# Altium footprint library Miscellaneous Devices LC.PcbLib: 559 footprints (part 17 of 35)
Each footprint in its own frame and in the unit in brackets; x right, y up, seen from the top. Pads: shape width x height; smd on the part's side, far side on the other; paste and mask are expansions set on the pad; w line width, h text height; cw(c..) or ccw(c..) is an arc to the next point about the centre after c.
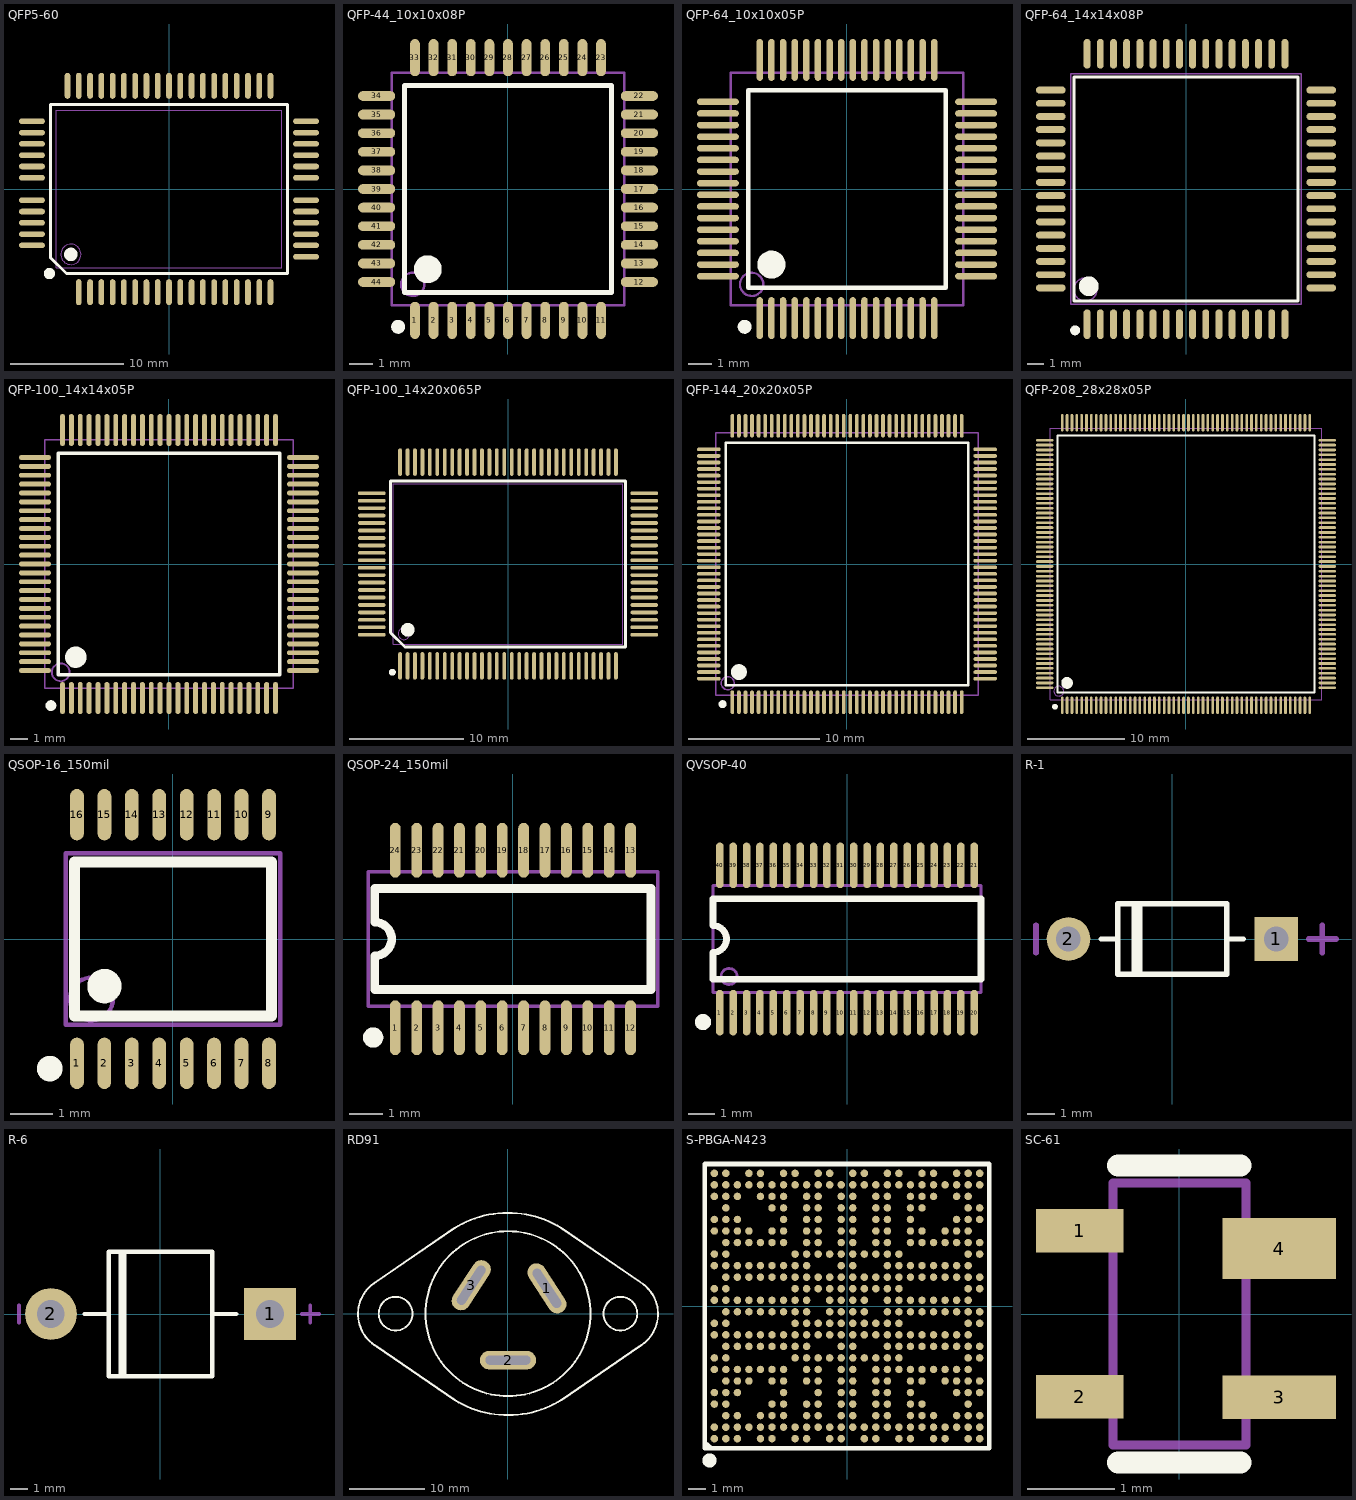
[diagram p16: the footprints below, top view; thin cyan lines are the x and y axes]

## QFP5-60 [mm]
pads (60):
  oval 2.3x0.5 smd: 1(-12.15,-1) 2(-12.15,-2) 3(-12.15,-3) 4(-12.15,-4) 5(-12.15,-5) 24(12.15,-6) 25(12.15,-5) 26(12.15,-4) 27(12.15,-3) 28(12.15,-2) 29(12.15,-1) 30(12.15,1) 31(12.15,2) 32(12.15,3) 33(12.15,4) 34(12.15,5) 35(12.15,6) 55(-12.15,6) 56(-12.15,5) 57(-12.15,4) 58(-12.15,3) 59(-12.15,2) 60(-12.15,1)
  oval 0.5x2.3 smd: 6(-8,-9.15) 7(-7,-9.15) 8(-6,-9.15) 9(-5,-9.15) 10(-4,-9.15) 11(-3,-9.15) 12(-2,-9.15) 13(-1,-9.15) 14(0,-9.15) 15(1,-9.15) 16(2,-9.15) 17(3,-9.15) 18(4,-9.15) 19(5,-9.15) 20(6,-9.15) 21(7,-9.15) 22(8,-9.15) 23(9,-9.15) 36(9,9.15) 37(8,9.15) 38(7,9.15) 39(6,9.15) 40(5,9.15) 41(4,9.15) 42(3,9.15) 43(2,9.15) 44(1,9.15) 45(0,9.15) 46(-1,9.15) 47(-2,9.15) 48(-3,9.15) 49(-4,9.15) 50(-5,9.15) 51(-6,9.15) 52(-7,9.15) 53(-8,9.15) 54(-9,9.15)
Top Overlay:
  circle w0.6: c-8.7,-5.8 r0.3
  circle w0.5: c-10.6,-7.5 r0.25
  lines w0.254: -10.5,-6.1 -9.1,-7.5 10.5,-7.5 10.5,7.5 -10.5,7.5 -10.5,-6.1
Mechanical 13:
  circle w0.1: c-8.7,-5.8 r0.9
  lines w0.1: -10,-7 -10,7 10,7 10,-7 -10,-7

## QFP-44_10x10x08P [mm]
pads (44):
  oval 0.42x1.6 smd: 1(-4,-5.65) 2(-3.2,-5.65) 3(-2.4,-5.65) 4(-1.6,-5.65) 5(-0.8,-5.65) 6(0,-5.65) 7(0.8,-5.65) 8(1.6,-5.65) 9(2.4,-5.65) 10(3.2,-5.65) 11(4,-5.65) 23(4,5.65) 24(3.2,5.65) 25(2.4,5.65) 26(1.6,5.65) 27(0.8,5.65) 28(0,5.65) 29(-0.8,5.65) 30(-1.6,5.65) 31(-2.4,5.65) 32(-3.2,5.65) 33(-4,5.65)
  oval 1.6x0.42 smd: 12(5.65,-4) 13(5.65,-3.2) 14(5.65,-2.4) 15(5.65,-1.6) 16(5.65,-0.8) 17(5.65,0) 18(5.65,0.8) 19(5.65,1.6) 20(5.65,2.4) 21(5.65,3.2) 22(5.65,4) 34(-5.65,4) 35(-5.65,3.2) 36(-5.65,2.4) 37(-5.65,1.6) 38(-5.65,0.8) 39(-5.65,0) 40(-5.65,-0.8) 41(-5.65,-1.6) 42(-5.65,-2.4) 43(-5.65,-3.2) 44(-5.65,-4)
Top Overlay:
  circle w0.6: c-3.45,-3.45 r0.3
  circle w0.3: c-4.725,-5.925 r0.15
  lines w0.2: -4.45,-4.45 4.45,-4.45 4.45,4.45 -4.45,4.45 -4.45,-4.45
Mechanical 13:
  circle w0.1: c-4.1,-4.1 r0.5
  lines w0.1: -5,-5 5,-5 5,5 -5,5 -5,-5

## QFP-64_10x10x05P [mm]
pads (64):
  oval 0.28x1.8 smd mask+0.051: 1(-3.75,-5.55) 2(-3.25,-5.55) 3(-2.75,-5.55) 4(-2.25,-5.55) 5(-1.75,-5.55) 6(-1.25,-5.55) 7(-0.75,-5.55) 8(-0.25,-5.55) 9(0.25,-5.55) 10(0.75,-5.55) 11(1.25,-5.55) 12(1.75,-5.55) 13(2.25,-5.55) 14(2.75,-5.55) 15(3.25,-5.55) 16(3.75,-5.55) 33(3.75,5.55) 34(3.25,5.55) 35(2.75,5.55) 36(2.25,5.55) 37(1.75,5.55) 38(1.25,5.55) 39(0.75,5.55) 40(0.25,5.55) 41(-0.25,5.55) 42(-0.75,5.55) 43(-1.25,5.55) 44(-1.75,5.55) 45(-2.25,5.55) 46(-2.75,5.55) 47(-3.25,5.55) 48(-3.75,5.55)
  oval 1.8x0.28 smd mask+0.051: 17(5.55,-3.75) 18(5.55,-3.25) 19(5.55,-2.75) 20(5.55,-2.25) 21(5.55,-1.75) 22(5.55,-1.25) 23(5.55,-0.75) 24(5.55,-0.25) 25(5.55,0.25) 26(5.55,0.75) 27(5.55,1.25) 28(5.55,1.75) 29(5.55,2.25) 30(5.55,2.75) 31(5.55,3.25) 32(5.55,3.75) 49(-5.55,3.75) 50(-5.55,3.25) 51(-5.55,2.75) 52(-5.55,2.25) 53(-5.55,1.75) 54(-5.55,1.25) 55(-5.55,0.75) 56(-5.55,0.25) 57(-5.55,-0.25) 58(-5.55,-0.75) 59(-5.55,-1.25) 60(-5.55,-1.75) 61(-5.55,-2.25) 62(-5.55,-2.75) 63(-5.55,-3.25) 64(-5.55,-3.75)
Top Overlay:
  circle w0.3: c-4.4,-5.925 r0.15
  circle w0.6: c-3.25,-3.25 r0.3
  lines w0.2: -4.25,-4.25 -4.25,4.25 4.25,4.25 4.25,-4.25 -4.25,-4.25
Mechanical 13:
  circle w0.1: c-4.1,-4.1 r0.5
  lines w0.1: -5,-5 -5,5 5,5 5,-5 -5,-5
3D body "PQFP-64.STEP": height 1.02, standoff -0.09, extent -5.79,-5.79 5.791,5.785

## QFP-64_14x14x08P [mm]
pads (64):
  oval 0.42x1.8 smd: 1(-6,-8.2) 2(-5.2,-8.2) 3(-4.4,-8.2) 4(-3.6,-8.2) 5(-2.8,-8.2) 6(-2,-8.2) 7(-1.2,-8.2) 8(-0.4,-8.2) 9(0.4,-8.2) 10(1.2,-8.2) 11(2,-8.2) 12(2.8,-8.2) 13(3.6,-8.2) 14(4.4,-8.2) 15(5.2,-8.2) 16(6,-8.2) 33(6,8.2) 34(5.2,8.2) 35(4.4,8.2) 36(3.6,8.2) 37(2.8,8.2) 38(2,8.2) 39(1.2,8.2) 40(0.4,8.2) 41(-0.4,8.2) 42(-1.2,8.2) 43(-2,8.2) 44(-2.8,8.2) 45(-3.6,8.2) 46(-4.4,8.2) 47(-5.2,8.2) 48(-6,8.2)
  oval 1.8x0.42 smd: 17(8.2,-6) 18(8.2,-5.2) 19(8.2,-4.4) 20(8.2,-3.6) 21(8.2,-2.8) 22(8.2,-2) 23(8.2,-1.2) 24(8.2,-0.4) 25(8.2,0.4) 26(8.2,1.2) 27(8.2,2) 28(8.2,2.8) 29(8.2,3.6) 30(8.2,4.4) 31(8.2,5.2) 32(8.2,6) 49(-8.2,6) 50(-8.2,5.2) 51(-8.2,4.4) 52(-8.2,3.6) 53(-8.2,2.8) 54(-8.2,2) 55(-8.2,1.2) 56(-8.2,0.4) 57(-8.2,-0.4) 58(-8.2,-1.2) 59(-8.2,-2) 60(-8.2,-2.8) 61(-8.2,-3.6) 62(-8.2,-4.4) 63(-8.2,-5.2) 64(-8.2,-6)
Top Overlay:
  circle w0.3: c-6.725,-8.575 r0.15
  circle w0.6: c-5.9,-5.9 r0.3
  lines w0.2: -6.8,-6.8 -6.8,6.8 6.8,6.8 6.8,-6.8 -6.8,-6.8
Mechanical 13:
  circle w0.1: c-6.1,-6.1 r0.7
  lines w0.1: -7,-7 -7,7 7,7 7,-7 -7,-7

## QFP-100_14x14x05P [mm]
pads (100):
  oval 0.28x1.8 smd mask+0.051: 1(-6,-7.55) 2(-5.5,-7.55) 3(-5,-7.55) 4(-4.5,-7.55) 5(-4,-7.55) 6(-3.5,-7.55) 7(-3,-7.55) 8(-2.5,-7.55) 9(-2,-7.55) 10(-1.5,-7.55) 11(-1,-7.55) 12(-0.5,-7.55) 13(0,-7.55) 14(0.5,-7.55) 15(1,-7.55) 16(1.5,-7.55) 17(2,-7.55) 18(2.5,-7.55) 19(3,-7.55) 20(3.5,-7.55) 21(4,-7.55) 22(4.5,-7.55) 23(5,-7.55) 24(5.5,-7.55) 25(6,-7.55) 51(6,7.55) 52(5.5,7.55) 53(5,7.55) 54(4.5,7.55) 55(4,7.55) 56(3.5,7.55) 57(3,7.55) 58(2.5,7.55) 59(2,7.55) 60(1.5,7.55) 61(1,7.55) 62(0.5,7.55) 63(0,7.55) 64(-0.5,7.55) 65(-1,7.55) 66(-1.5,7.55) 67(-2,7.55) 68(-2.5,7.55) 69(-3,7.55) 70(-3.5,7.55) 71(-4,7.55) 72(-4.5,7.55) 73(-5,7.55) 74(-5.5,7.55) 75(-6,7.55)
  oval 1.8x0.28 smd mask+0.051: 26(7.55,-6) 27(7.55,-5.5) 28(7.55,-5) 29(7.55,-4.5) 30(7.55,-4) 31(7.55,-3.5) 32(7.55,-3) 33(7.55,-2.5) 34(7.55,-2) 35(7.55,-1.5) 36(7.55,-1) 37(7.55,-0.5) 38(7.55,0) 39(7.55,0.5) 40(7.55,1) 41(7.55,1.5) 42(7.55,2) 43(7.55,2.5) 44(7.55,3) 45(7.55,3.5) 46(7.55,4) 47(7.55,4.5) 48(7.55,5) 49(7.55,5.5) 50(7.55,6) 76(-7.55,6) 77(-7.55,5.5) 78(-7.55,5) 79(-7.55,4.5) 80(-7.55,4) 81(-7.55,3.5) 82(-7.55,3) 83(-7.55,2.5) 84(-7.55,2) 85(-7.55,1.5) 86(-7.55,1) 87(-7.55,0.5) 88(-7.55,0) 89(-7.55,-0.5) 90(-7.55,-1) 91(-7.55,-1.5) 92(-7.55,-2) 93(-7.55,-2.5) 94(-7.55,-3) 95(-7.55,-3.5) 96(-7.55,-4) 97(-7.55,-4.5) 98(-7.55,-5) 99(-7.55,-5.5) 100(-7.55,-6)
Top Overlay:
  circle w0.6: c-5.25,-5.25 r0.3
  circle w0.3: c-6.65,-7.975 r0.15
  lines w0.2: -6.25,-6.25 -6.25,6.25 6.25,6.25 6.25,-6.25 -6.25,-6.25
Mechanical 13:
  circle w0.1: c-6.1,-6.1 r0.5
  lines w0.1: -7,-7 -7,7 7,7 7,-7 -7,-7
3D body "LQFP-100.STEP": height 1.6, standoff 0, extent -8,-8 8,8

## QFP-100_14x20x065P [mm]
pads (100):
  oval 0.33x2.4 smd: 1(-9.425,-8.9) 2(-8.775,-8.9) 3(-8.125,-8.9) 4(-7.475,-8.9) 5(-6.825,-8.9) 6(-6.175,-8.9) 7(-5.525,-8.9) 8(-4.875,-8.9) 9(-4.225,-8.9) 10(-3.575,-8.9) 11(-2.925,-8.9) 12(-2.275,-8.9) 13(-1.625,-8.9) 14(-0.975,-8.9) 15(-0.325,-8.9) 16(0.325,-8.9) 17(0.975,-8.9) 18(1.625,-8.9) 19(2.275,-8.9) 20(2.925,-8.9) 21(3.575,-8.9) 22(4.225,-8.9) 23(4.875,-8.9) 24(5.525,-8.9) 25(6.175,-8.9) 26(6.825,-8.9) 27(7.475,-8.9) 28(8.125,-8.9) 29(8.775,-8.9) 30(9.425,-8.9) 51(9.425,8.9) 52(8.775,8.9) 53(8.125,8.9) 54(7.475,8.9) 55(6.825,8.9) 56(6.175,8.9) 57(5.525,8.9) 58(4.875,8.9) 59(4.225,8.9) 60(3.575,8.9) 61(2.925,8.9) 62(2.275,8.9) 63(1.625,8.9) 64(0.975,8.9) 65(0.325,8.9) 66(-0.325,8.9) 67(-0.975,8.9) 68(-1.625,8.9) 69(-2.275,8.9) 70(-2.925,8.9) 71(-3.575,8.9) 72(-4.225,8.9) 73(-4.875,8.9) 74(-5.525,8.9) 75(-6.175,8.9) 76(-6.825,8.9) 77(-7.475,8.9) 78(-8.125,8.9) 79(-8.775,8.9) 80(-9.425,8.9)
  oval 2.4x0.33 smd: 31(11.9,-6.175) 32(11.9,-5.525) 33(11.9,-4.875) 34(11.9,-4.225) 35(11.9,-3.575) 36(11.9,-2.925) 37(11.9,-2.275) 38(11.9,-1.625) 39(11.9,-0.975) 40(11.9,-0.325) 41(11.9,0.325) 42(11.9,0.975) 43(11.9,1.625) 44(11.9,2.275) 45(11.9,2.925) 46(11.9,3.575) 47(11.9,4.225) 48(11.9,4.875) 49(11.9,5.525) 50(11.9,6.175) 81(-11.9,6.175) 82(-11.9,5.525) 83(-11.9,4.875) 84(-11.9,4.225) 85(-11.9,3.575) 86(-11.9,2.925) 87(-11.9,2.275) 88(-11.9,1.625) 89(-11.9,0.975) 90(-11.9,0.325) 91(-11.9,-0.325) 92(-11.9,-0.975) 93(-11.9,-1.625) 94(-11.9,-2.275) 95(-11.9,-2.925) 96(-11.9,-3.575) 97(-11.9,-4.225) 98(-11.9,-4.875) 99(-11.9,-5.525) 100(-11.9,-6.175)
Top Overlay:
  circle w0.6: c-8.75,-5.75 r0.3
  circle w0.3: c-10.1,-9.45 r0.15
  lines w0.254: -10.25,-6 -9,-7.25 10.25,-7.25 10.25,7.25 -10.25,7.25 -10.25,-6
Mechanical 13:
  circle w0.1: c-9.1,-6.1 r0.5
  lines w0.1: -10,-7 -10,7 10,7 10,-7 -10,-7

## QFP-144_20x20x05P [mm]
pads (144):
  oval 0.28x1.8 smd mask+0.051: 1(-8.75,-10.55) 2(-8.25,-10.55) 3(-7.75,-10.55) 4(-7.25,-10.55) 5(-6.75,-10.55) 6(-6.25,-10.55) 7(-5.75,-10.55) 8(-5.25,-10.55) 9(-4.75,-10.55) 10(-4.25,-10.55) 11(-3.75,-10.55) 12(-3.25,-10.55) 13(-2.75,-10.55) 14(-2.25,-10.55) 15(-1.75,-10.55) 16(-1.25,-10.55) 17(-0.75,-10.55) 18(-0.25,-10.55) 19(0.25,-10.55) 20(0.75,-10.55) 21(1.25,-10.55) 22(1.75,-10.55) 23(2.25,-10.55) 24(2.75,-10.55) 25(3.25,-10.55) 26(3.75,-10.55) 27(4.25,-10.55) 28(4.75,-10.55) 29(5.25,-10.55) 30(5.75,-10.55) 31(6.25,-10.55) 32(6.75,-10.55) 33(7.25,-10.55) 34(7.75,-10.55) 35(8.25,-10.55) 36(8.75,-10.55) 73(8.75,10.55) 74(8.25,10.55) 75(7.75,10.55) 76(7.25,10.55) 77(6.75,10.55) 78(6.25,10.55) 79(5.75,10.55) 80(5.25,10.55) 81(4.75,10.55) 82(4.25,10.55) 83(3.75,10.55) 84(3.25,10.55) 85(2.75,10.55) 86(2.25,10.55) 87(1.75,10.55) 88(1.25,10.55) 89(0.75,10.55) 90(0.25,10.55) 91(-0.25,10.55) 92(-0.75,10.55) 93(-1.25,10.55) 94(-1.75,10.55) 95(-2.25,10.55) 96(-2.75,10.55) 97(-3.25,10.55) 98(-3.75,10.55) 99(-4.25,10.55) 100(-4.75,10.55) 101(-5.25,10.55) 102(-5.75,10.55) 103(-6.25,10.55) 104(-6.75,10.55) 105(-7.25,10.55) 106(-7.75,10.55) 107(-8.25,10.55) 108(-8.75,10.55)
  oval 1.8x0.28 smd mask+0.051: 37(10.55,-8.75) 38(10.55,-8.25) 39(10.55,-7.75) 40(10.55,-7.25) 41(10.55,-6.75) 42(10.55,-6.25) 43(10.55,-5.75) 44(10.55,-5.25) 45(10.55,-4.75) 46(10.55,-4.25) 47(10.55,-3.75) 48(10.55,-3.25) 49(10.55,-2.75) 50(10.55,-2.25) 51(10.55,-1.75) 52(10.55,-1.25) 53(10.55,-0.75) 54(10.55,-0.25) 55(10.55,0.25) 56(10.55,0.75) 57(10.55,1.25) 58(10.55,1.75) 59(10.55,2.25) 60(10.55,2.75) 61(10.55,3.25) 62(10.55,3.75) 63(10.55,4.25) 64(10.55,4.75) 65(10.55,5.25) 66(10.55,5.75) 67(10.55,6.25) 68(10.55,6.75) 69(10.55,7.25) 70(10.55,7.75) 71(10.55,8.25) 72(10.55,8.75) 109(-10.55,8.75) 110(-10.55,8.25) 111(-10.55,7.75) 112(-10.55,7.25) 113(-10.55,6.75) 114(-10.55,6.25) 115(-10.55,5.75) 116(-10.55,5.25) 117(-10.55,4.75) 118(-10.55,4.25) 119(-10.55,3.75) 120(-10.55,3.25) 121(-10.55,2.75) 122(-10.55,2.25) 123(-10.55,1.75) 124(-10.55,1.25) 125(-10.55,0.75) 126(-10.55,0.25) 127(-10.55,-0.25) 128(-10.55,-0.75) 129(-10.55,-1.25) 130(-10.55,-1.75) 131(-10.55,-2.25) 132(-10.55,-2.75) 133(-10.55,-3.25) 134(-10.55,-3.75) 135(-10.55,-4.25) 136(-10.55,-4.75) 137(-10.55,-5.25) 138(-10.55,-5.75) 139(-10.55,-6.25) 140(-10.55,-6.75) 141(-10.55,-7.25) 142(-10.55,-7.75) 143(-10.55,-8.25) 144(-10.55,-8.75)
Top Overlay:
  circle w0.3: c-9.5,-10.7 r0.15
  circle w0.6: c-8.25,-8.25 r0.3
  lines w0.2: -9.25,-9.25 9.25,-9.25 9.25,9.25 -9.25,9.25 -9.25,-9.25
Mechanical 13:
  circle w0.1: c-9.1,-9.1 r0.5
  lines w0.1: -10,-10 10,-10 10,10 -10,10 -10,-10

## QFP-208_28x28x05P [mm]
pads (208):
  oval 0.28x1.8 smd mask+0.051: 1(-12.75,-14.55) 2(-12.25,-14.55) 3(-11.75,-14.55) 4(-11.25,-14.55) 5(-10.75,-14.55) 6(-10.25,-14.55) 7(-9.75,-14.55) 8(-9.25,-14.55) 9(-8.75,-14.55) 10(-8.25,-14.55) 11(-7.75,-14.55) 12(-7.25,-14.55) 13(-6.75,-14.55) 14(-6.25,-14.55) 15(-5.75,-14.55) 16(-5.25,-14.55) 17(-4.75,-14.55) 18(-4.25,-14.55) 19(-3.75,-14.55) 20(-3.25,-14.55) 21(-2.75,-14.55) 22(-2.25,-14.55) 23(-1.75,-14.55) 24(-1.25,-14.55) 25(-0.75,-14.55) 26(-0.25,-14.55) 27(0.25,-14.55) 28(0.75,-14.55) 29(1.25,-14.55) 30(1.75,-14.55) 31(2.25,-14.55) 32(2.75,-14.55) 33(3.25,-14.55) 34(3.75,-14.55) 35(4.25,-14.55) 36(4.75,-14.55) 37(5.25,-14.55) 38(5.75,-14.55) 39(6.25,-14.55) 40(6.75,-14.55) 41(7.25,-14.55) 42(7.75,-14.55) 43(8.25,-14.55) 44(8.75,-14.55) 45(9.25,-14.55) 46(9.75,-14.55) 47(10.25,-14.55) 48(10.75,-14.55) 49(11.25,-14.55) 50(11.75,-14.55) 51(12.25,-14.55) 52(12.75,-14.55) 105(12.75,14.55) 106(12.25,14.55) 107(11.75,14.55) 108(11.25,14.55) 109(10.75,14.55) 110(10.25,14.55) 111(9.75,14.55) 112(9.25,14.55) 113(8.75,14.55) 114(8.25,14.55) 115(7.75,14.55) 116(7.25,14.55) 117(6.75,14.55) 118(6.25,14.55) 119(5.75,14.55) 120(5.25,14.55) 121(4.75,14.55) 122(4.25,14.55) 123(3.75,14.55) 124(3.25,14.55) 125(2.75,14.55) 126(2.25,14.55) 127(1.75,14.55) 128(1.25,14.55) 129(0.75,14.55) 130(0.25,14.55) 131(-0.25,14.55) 132(-0.75,14.55) 133(-1.25,14.55) 134(-1.75,14.55) 135(-2.25,14.55) 136(-2.75,14.55) 137(-3.25,14.55) 138(-3.75,14.55) 139(-4.25,14.55) 140(-4.75,14.55) 141(-5.25,14.55) 142(-5.75,14.55) 143(-6.25,14.55) 144(-6.75,14.55) 145(-7.25,14.55) 146(-7.75,14.55) 147(-8.25,14.55) 148(-8.75,14.55) 149(-9.25,14.55) 150(-9.75,14.55) 151(-10.25,14.55) 152(-10.75,14.55) 153(-11.25,14.55) 154(-11.75,14.55) 155(-12.25,14.55) 156(-12.75,14.55)
  oval 1.8x0.28 smd mask+0.051: 53(14.55,-12.75) 54(14.55,-12.25) 55(14.55,-11.75) 56(14.55,-11.25) 57(14.55,-10.75) 58(14.55,-10.25) 59(14.55,-9.75) 60(14.55,-9.25) 61(14.55,-8.75) 62(14.55,-8.25) 63(14.55,-7.75) 64(14.55,-7.25) 65(14.55,-6.75) 66(14.55,-6.25) 67(14.55,-5.75) 68(14.55,-5.25) 69(14.55,-4.75) 70(14.55,-4.25) 71(14.55,-3.75) 72(14.55,-3.25) 73(14.55,-2.75) 74(14.55,-2.25) 75(14.55,-1.75) 76(14.55,-1.25) 77(14.55,-0.75) 78(14.55,-0.25) 79(14.55,0.25) 80(14.55,0.75) 81(14.55,1.25) 82(14.55,1.75) 83(14.55,2.25) 84(14.55,2.75) 85(14.55,3.25) 86(14.55,3.75) 87(14.55,4.25) 88(14.55,4.75) 89(14.55,5.25) 90(14.55,5.75) 91(14.55,6.25) 92(14.55,6.75) 93(14.55,7.25) 94(14.55,7.75) 95(14.55,8.25) 96(14.55,8.75) 97(14.55,9.25) 98(14.55,9.75) 99(14.55,10.25) 100(14.55,10.75) 101(14.55,11.25) 102(14.55,11.75) 103(14.55,12.25) 104(14.55,12.75) 157(-14.55,12.75) 158(-14.55,12.25) 159(-14.55,11.75) 160(-14.55,11.25) 161(-14.55,10.75) 162(-14.55,10.25) 163(-14.55,9.75) 164(-14.55,9.25) 165(-14.55,8.75) 166(-14.55,8.25) 167(-14.55,7.75) 168(-14.55,7.25) 169(-14.55,6.75) 170(-14.55,6.25) 171(-14.55,5.75) 172(-14.55,5.25) 173(-14.55,4.75) 174(-14.55,4.25) 175(-14.55,3.75) 176(-14.55,3.25) 177(-14.55,2.75) 178(-14.55,2.25) 179(-14.55,1.75) 180(-14.55,1.25) 181(-14.55,0.75) 182(-14.55,0.25) 183(-14.55,-0.25) 184(-14.55,-0.75) 185(-14.55,-1.25) 186(-14.55,-1.75) 187(-14.55,-2.25) 188(-14.55,-2.75) 189(-14.55,-3.25) 190(-14.55,-3.75) 191(-14.55,-4.25) 192(-14.55,-4.75) 193(-14.55,-5.25) 194(-14.55,-5.75) 195(-14.55,-6.25) 196(-14.55,-6.75) 197(-14.55,-7.25) 198(-14.55,-7.75) 199(-14.55,-8.25) 200(-14.55,-8.75) 201(-14.55,-9.25) 202(-14.55,-9.75) 203(-14.55,-10.25) 204(-14.55,-10.75) 205(-14.55,-11.25) 206(-14.55,-11.75) 207(-14.55,-12.25) 208(-14.55,-12.75)
Top Overlay:
  circle w0.6: c-12.25,-12.25 r0.3
  circle w0.3: c-13.5,-14.7 r0.15
  lines w0.2: -13.25,-13.25 -13.25,13.25 13.25,13.25 13.25,-13.25 -13.25,-13.25
Mechanical 13:
  circle w0.1: c-13.1,-13.1 r0.5
  lines w0.1: -14,-14 -14,14 14,14 14,-14 -14,-14

## QSOP-16_150mil [mm]
pads (16):
  oval 0.32x1.2 smd: 1(-2.24,-2.9) 2(-1.6,-2.9) 3(-0.96,-2.9) 4(-0.32,-2.9) 5(0.32,-2.9) 6(0.96,-2.9) 7(1.6,-2.9) 8(2.24,-2.9) 9(2.24,2.9) 10(1.6,2.9) 11(0.96,2.9) 12(0.32,2.9) 13(-0.32,2.9) 14(-0.96,2.9) 15(-1.6,2.9) 16(-2.24,2.9)
Top Overlay:
  circle w0.3: c-2.875,-3.025 r0.15
  circle w0.4: c-1.6,-1.1 r0.2
  lines w0.254: -2.3,-1.8 2.3,-1.8 2.3,1.8 -2.3,1.8 -2.3,-1.8
Mechanical 13:
  circle w0.1: c-1.9,-1.4 r0.5
  lines w0.1: -2.5,-2 -2.5,2 2.5,2 2.5,-2 -2.5,-2

## QSOP-24_150mil [mm]
pads (24):
  oval 0.32x1.63 smd: 1(-3.492,-2.635) 2(-2.857,-2.635) 3(-2.222,-2.635) 4(-1.587,-2.635) 5(-0.953,-2.635) 6(-0.318,-2.635) 7(0.318,-2.635) 8(0.953,-2.635) 9(1.587,-2.635) 10(2.222,-2.635) 11(2.857,-2.635) 12(3.492,-2.635) 13(3.492,2.635) 14(2.857,2.635) 15(2.222,2.635) 16(1.587,2.635) 17(0.953,2.635) 18(0.318,2.635) 19(-0.318,2.635) 20(-0.953,2.635) 21(-1.587,2.635) 22(-2.222,2.635) 23(-2.857,2.635) 24(-3.492,2.635)
Top Overlay:
  circle w0.3: c-4.15,-2.925 r0.15
  lines w0.254: -4.1,-1.5 4.1,-1.5 4.1,1.5 -4.1,1.5 -4.1,0.5 cw(c-4.1,0) -4.1,-0.5 -4.1,-1.5
Mechanical 13:
  lines w0.1: -4.3,-2 -4.3,2 4.3,2 4.3,-2 -4.3,-2

## QVSOP-40 [mm] "EQU =SSOP-40, 150mil width"
pads (40):
  oval 0.28x1.7 smd mask+0.051: 1(-4.75,-2.75) 2(-4.25,-2.75) 3(-3.75,-2.75) 4(-3.25,-2.75) 5(-2.75,-2.75) 6(-2.25,-2.75) 7(-1.75,-2.75) 8(-1.25,-2.75) 9(-0.75,-2.75) 10(-0.25,-2.75) 11(0.25,-2.75) 12(0.75,-2.75) 13(1.25,-2.75) 14(1.75,-2.75) 15(2.25,-2.75) 16(2.75,-2.75) 17(3.25,-2.75) 18(3.75,-2.75) 19(4.25,-2.75) 20(4.75,-2.75) 21(4.75,2.75) 22(4.25,2.75) 23(3.75,2.75) 24(3.25,2.75) 25(2.75,2.75) 26(2.25,2.75) 27(1.75,2.75) 28(1.25,2.75) 29(0.75,2.75) 30(0.25,2.75) 31(-0.25,2.75) 32(-0.75,2.75) 33(-1.25,2.75) 34(-1.75,2.75) 35(-2.25,2.75) 36(-2.75,2.75) 37(-3.25,2.75) 38(-3.75,2.75) 39(-4.25,2.75) 40(-4.75,2.75)
Top Overlay:
  circle w0.3: c-5.375,-3.1 r0.15
  lines w0.254: -5,-1.5 5,-1.5 5,1.5 -5,1.5 -5,0.5 cw(c-5,0) -5,-0.5 -5,-1.5
Mechanical 13:
  circle w0.1: c-4.4,-1.4 r0.3
  lines w0.1: -5,-2 5,-2 5,2 -5,2 -5,-2

## R-1 [mm]
pads (2):
  rect 1.6x1.6 hole 0.9: 1(3.81,0)
  round 1.6 hole 0.9: 2(-3.81,0)
Top Overlay:
  lines w0.2: -2.6,0 -2,0 ; -1.4,-1.3 -1.4,1.3 -2,1.3 ; -1.2,-1.3 -1.2,1.3 ; 2,0 2.6,0 ; -2,1.3 2,1.3 2,-1.3 -2,-1.3 -2,1.3
Mechanical 15:
  lines w0.203: -5,-0.5 -5,0.5 ; 5,0 6,0 ; 5.5,-0.5 5.5,0.5

## R-6 [mm]
pads (2):
  rect 3x3 hole 1.6: 1(6.35,0)
  round 3 hole 1.6: 2(-6.35,0)
Top Overlay:
  lines w0.254: -4.4,0 -3,0 ; -2.3,-3.6 -2.3,3.6 ; -2.1,-3.6 -2.1,3.6 ; 3,0 4.4,0 ; -3,-3.6 3,-3.6 3,3.6 -3,3.6 -3,-3.6
Mechanical 15:
  lines w0.203: -8.2,-0.5 -8.2,0.5 ; 8.19,0 9.19,0 ; 8.69,-0.5 8.69,0.5

## RD91 [mm]
pads (3):
  oval 7.5x2.5 hole 1.2 slot 6 at 123 deg rot 123: 1(5.2,3.38)
  oval 7.5x2.5 hole 1.2 slot 6 at 0 deg: 2(0,-6.2)
  oval 7.5x2.5 hole 1.2 slot 6 at 57 deg rot 57: 3(-4.9,3.8)
Top Overlay:
  circle w0.254: c15,0 r2.25
  circle w0.254: c-15,0 r2.25
  circle w0.254: c0,0 r11
  lines w0.254: -17.599,4.245 ccw(c-15,-0.043) -17.502,-4.389 -7.123,-11.514 ccw(c0,-0.043) 7.234,-11.444 17.522,-4.378 ccw(c15,-0.043) 17.56,4.268 7.123,11.427 ccw(c0,-0.043) -7.234,11.357 -17.599,4.245

## S-PBGA-N423 [mm]
pads (424):
  round 0.42 smd mask+0.051: A1(-7.475,-7.475) A2(-7.475,-6.825) A4(-7.475,-5.525) A5(-7.475,-4.875) A7(-7.475,-3.575) A8(-7.475,-2.925) A10(-7.475,-1.625) A11(-7.475,-0.975) A13(-7.475,0.325) A14(-7.475,0.975) A16(-7.475,2.275) A17(-7.475,2.925) A19(-7.475,4.225) A20(-7.475,4.875) A22(-7.475,6.175) A23(-7.475,6.825) A24(-7.475,7.475) AA1(5.525,-7.475) AA2(5.525,-6.825) AA6(5.525,-4.225) AA7(5.525,-3.575) AA9(5.525,-2.275) AA10(5.525,-1.625) AA12(5.525,-0.325) AA13(5.525,0.325) AA15(5.525,1.625) AA16(5.525,2.275) AA18(5.525,3.575) AA19(5.525,4.225) AA23(5.525,6.825) AB2(6.175,-6.825) AB3(6.175,-6.175) AB5(6.175,-4.875) AB6(6.175,-4.225) AB7(6.175,-3.575) AB9(6.175,-2.275) AB10(6.175,-1.625) AB12(6.175,-0.325) AB13(6.175,0.325) AB15(6.175,1.625) AB16(6.175,2.275) AB18(6.175,3.575) AB19(6.175,4.225) AB20(6.175,4.875) AB22(6.175,6.175) AB23(6.175,6.825) AB24(6.175,7.475) AC1(6.825,-7.475) AC2(6.825,-6.825) AC3(6.825,-6.175) AC4(6.825,-5.525) AC5(6.825,-4.875) AC6(6.825,-4.225) AC7(6.825,-3.575) AC8(6.825,-2.925) AC9(6.825,-2.275) AC10(6.825,-1.625) AC11(6.825,-0.975) AC12(6.825,-0.325) AC13(6.825,0.325) AC14(6.825,0.975) AC15(6.825,1.625) AC16(6.825,2.275) AC17(6.825,2.925) AC18(6.825,3.575) AC19(6.825,4.225) AC20(6.825,4.875) AC21(6.825,5.525) AC22(6.825,6.175) AC23(6.825,6.825) AC24(6.825,7.475) AD1(7.475,-7.475) AD2(7.475,-6.825) AD3(7.475,-6.175) AD5(7.475,-4.875) AD6(7.475,-4.225) AD8(7.475,-2.925) AD9(7.475,-2.275) AD11(7.475,-0.975) AD12(7.475,-0.325) AD14(7.475,0.975) AD15(7.475,1.625) AD17(7.475,2.925) AD18(7.475,3.575) AD20(7.475,4.875) AD21(7.475,5.525) AD23(7.475,6.825) AD24(7.475,7.475) B1(-6.825,-7.475) B2(-6.825,-6.825) B3(-6.825,-6.175) B4(-6.825,-5.525) B5(-6.825,-4.875) B6(-6.825,-4.225) B7(-6.825,-3.575) B8(-6.825,-2.925) B9(-6.825,-2.275) B10(-6.825,-1.625) B11(-6.825,-0.975) B12(-6.825,-0.325) B13(-6.825,0.325) B14(-6.825,0.975) B15(-6.825,1.625) B16(-6.825,2.275) B17(-6.825,2.925) B18(-6.825,3.575) B19(-6.825,4.225) B20(-6.825,4.875) B21(-6.825,5.525) B22(-6.825,6.175) B23(-6.825,6.825) B24(-6.825,7.475) C1(-6.175,-7.475) C2(-6.175,-6.825) C3(-6.175,-6.175) C5(-6.175,-4.875) C6(-6.175,-4.225) C7(-6.175,-3.575) C9(-6.175,-2.275) C10(-6.175,-1.625) C12(-6.175,-0.325) C13(-6.175,0.325) C15(-6.175,1.625) C16(-6.175,2.275) C18(-6.175,3.575) C19(-6.175,4.225) C20(-6.175,4.875) C22(-6.175,6.175) C23(-6.175,6.825) D2(-5.525,-6.825) D6(-5.525,-4.225) D7(-5.525,-3.575) D9(-5.525,-2.275) D10(-5.525,-1.625) D12(-5.525,-0.325) D13(-5.525,0.325) D15(-5.525,1.625) D16(-5.525,2.275) D18(-5.525,3.575) D19(-5.525,4.225) D23(-5.525,6.825) D24(-5.525,7.475) E1(-4.875,-7.475) E2(-4.875,-6.825) E3(-4.875,-6.175) E7(-4.875,-3.575) E9(-4.875,-2.275) E10(-4.875,-1.625) E12(-4.875,-0.325) E13(-4.875,0.325) E15(-4.875,1.625) E16(-4.875,2.275) E18(-4.875,3.575) E22(-4.875,6.175) E23(-4.875,6.825) E24(-4.875,7.475) F1(-4.225,-7.475) F2(-4.225,-6.825) F3(-4.225,-6.175) F4(-4.225,-5.525) F6(-4.225,-4.225) F7(-4.225,-3.575) F9(-4.225,-2.275) F10(-4.225,-1.625) F12(-4.225,-0.325) F13(-4.225,0.325) F15(-4.225,1.625) F16(-4.225,2.275) F18(-4.225,3.575) F19(-4.225,4.225) F21(-4.225,5.525) F22(-4.225,6.175) F23(-4.225,6.825) G2(-3.575,-6.825) G3(-3.575,-6.175) G4(-3.575,-5.525) G5(-3.575,-4.875) G6(-3.575,-4.225) G7(-3.575,-3.575) G9(-3.575,-2.275) G10(-3.575,-1.625) G12(-3.575,-0.325) G13(-3.575,0.325) G15(-3.575,1.625) G16(-3.575,2.275) G18(-3.575,3.575) G19(-3.575,4.225) G20(-3.575,4.875) G21(-3.575,5.525) G22(-3.575,6.175) G23(-3.575,6.825) G24(-3.575,7.475) H1(-2.925,-7.475) H2(-2.925,-6.825) H8(-2.925,-2.925) H9(-2.925,-2.275) H10(-2.925,-1.625) H11(-2.925,-0.975) H12(-2.925,-0.325) H13(-2.925,0.325) H14(-2.925,0.975) H15(-2.925,1.625) H16(-2.925,2.275) H17(-2.925,2.925) H23(-2.925,6.825) H24(-2.925,7.475) J1(-2.275,-7.475) J2(-2.275,-6.825) J3(-2.275,-6.175) J4(-2.275,-5.525) J6(-2.275,-4.225) J7(-2.275,-3.575) J8(-2.275,-2.925) J9(-2.275,-2.275) J10(-2.275,-1.625) J11(-2.275,-0.975) J12(-2.275,-0.325) J13(-2.275,0.325) J14(-2.275,0.975) J15(-2.275,1.625) J16(-2.275,2.275) J17(-2.275,2.925) J18(-2.275,3.575) J19(-2.275,4.225) J20(-2.275,4.875) J21(-2.275,5.525) J22(-2.275,6.175) J23(-2.275,6.825) K2(-1.625,-6.825) K3(-1.625,-6.175) K4(-1.625,-5.525) K5(-1.625,-4.875) K6(-1.625,-4.225) K7(-1.625,-3.575) K8(-1.625,-2.925) K10(-1.625,-1.625) K11(-1.625,-0.975) K14(-1.625,0.975) K15(-1.625,1.625) K17(-1.625,2.925) K18(-1.625,3.575) K19(-1.625,4.225) K20(-1.625,4.875) K21(-1.625,5.525) K22(-1.625,6.175) K23(-1.625,6.825) K24(-1.625,7.475) L1(-0.975,-7.475) L2(-0.975,-6.825) L8(-0.975,-2.925) L10(-0.975,-1.625) L11(-0.975,-0.975) L12(-0.975,-0.325) L13(-0.975,0.325) L14(-0.975,0.975) L15(-0.975,1.625) L17(-0.975,2.925) L23(-0.975,6.825) L24(-0.975,7.475) M1(-0.325,-7.475) M2(-0.325,-6.825) M3(-0.325,-6.175) M4(-0.325,-5.525) M5(-0.325,-4.875) M6(-0.325,-4.225) M7(-0.325,-3.575) M8(-0.325,-2.925) M9(-0.325,-2.275) M10(-0.325,-1.625) M11(-0.325,-0.975) M12(-0.325,-0.325) M13(-0.325,0.325) M14(-0.325,0.975) M15(-0.325,1.625) M16(-0.325,2.275) M17(-0.325,2.925) M18(-0.325,3.575) M19(-0.325,4.225) M20(-0.325,4.875) M21(-0.325,5.525) M22(-0.325,6.175) M23(-0.325,6.825) N2(0.325,-6.825) N3(0.325,-6.175) N4(0.325,-5.525) N5(0.325,-4.875) N6(0.325,-4.225) N7(0.325,-3.575) N8(0.325,-2.925) N9(0.325,-2.275) N10(0.325,-1.625) N11(0.325,-0.975) N12(0.325,-0.325) N13(0.325,0.325) N14(0.325,0.975) N15(0.325,1.625) N16(0.325,2.275) N17(0.325,2.925) N18(0.325,3.575) N19(0.325,4.225) N20(0.325,4.875) N21(0.325,5.525) N22(0.325,6.175) N23(0.325,6.825) N24(0.325,7.475) P1(0.975,-7.475) P2(0.975,-6.825) P8(0.975,-2.925) P10(0.975,-1.625) P11(0.975,-0.975) P12(0.975,-0.325) P13(0.975,0.325) P14(0.975,0.975) P15(0.975,1.625) P17(0.975,2.925) P23(0.975,6.825) P24(0.975,7.475) R1(1.625,-7.475) R2(1.625,-6.825) R3(1.625,-6.175) R4(1.625,-5.525) R5(1.625,-4.875) R6(1.625,-4.225) R7(1.625,-3.575) R8(1.625,-2.925) R10(1.625,-1.625) R11(1.625,-0.975) R14(1.625,0.975) R15(1.625,1.625) R17(1.625,2.925) R18(1.625,3.575) R19(1.625,4.225) R20(1.625,4.875) R21(1.625,5.525) R22(1.625,6.175) R23(1.625,6.825) T2(2.275,-6.825) T3(2.275,-6.175) T4(2.275,-5.525) T5(2.275,-4.875) T6(2.275,-4.225) T7(2.275,-3.575) T8(2.275,-2.925) T9(2.275,-2.275) T10(2.275,-1.625) T11(2.275,-0.975) T12(2.275,-0.325) T13(2.275,0.325) T14(2.275,0.975) T15(2.275,1.625) T16(2.275,2.275) T17(2.275,2.925) T18(2.275,3.575) T19(2.275,4.225) T20(2.275,4.875) T21(2.275,5.525) T22(2.275,6.175) T23(2.275,6.825) T24(2.275,7.475) U1(2.925,-7.475) U2(2.925,-6.825) U7(2.925,-3.575) U8(2.925,-2.925) U9(2.925,-2.275) U10(2.925,-1.625) U11(2.925,-0.975) U12(2.925,-0.325) U13(2.925,0.325) U14(2.925,0.975) U15(2.925,1.625) U16(2.925,2.275) U17(2.925,2.925) U23(2.925,6.825) U24(2.925,7.475) V1(3.575,-7.475) V2(3.575,-6.825) V3(3.575,-6.175) V4(3.575,-5.525) V5(3.575,-4.875) V6(3.575,-4.225) V7(3.575,-3.575) V9(3.575,-2.275) V10(3.575,-1.625) V12(3.575,-0.325) V13(3.575,0.325) V15(3.575,1.625) V16(3.575,2.275) V18(3.575,3.575) V19(3.575,4.225) V20(3.575,4.875) V21(3.575,5.525) V22(3.575,6.175) V23(3.575,6.825) W2(4.225,-6.825) W3(4.225,-6.175) W4(4.225,-5.525) W6(4.225,-4.225) W7(4.225,-3.575) W9(4.225,-2.275) W10(4.225,-1.625) W12(4.225,-0.325) W13(4.225,0.325) W15(4.225,1.625) W16(4.225,2.275) W18(4.225,3.575) W19(4.225,4.225) W21(4.225,5.525) W22(4.225,6.175) W23(4.225,6.825) W24(4.225,7.475) Y1(4.875,-7.475) Y2(4.875,-6.825) Y3(4.875,-6.175) Y7(4.875,-3.575) Y9(4.875,-2.275) Y10(4.875,-1.625) Y12(4.875,-0.325) Y13(4.875,0.325) Y15(4.875,1.625) Y16(4.875,2.275) Y18(4.875,3.575) Y22(4.875,6.175) Y23(4.875,6.825) Y24(4.875,7.475)
Top Overlay:
  circle w0.4: c-7.75,-8.7 r0.2
  lines w0.2: -7.975,-7.675 -7.625,-8
  lines w0.254: -8,-8 -8,8 8,8 8,-8 -8,-8

## SC-61 [mm]
pads (4):
  rect 1x0.5 smd: 1(-1.143,0.953) 2(-1.143,-0.947)
  rect 1.3x0.5 smd: 3(1.143,-0.953)
  rect 1.3x0.7 smd: 4(1.143,0.75)
Top Overlay:
  lines w0.254: -0.7,-1.7 0.7,-1.7 ; -0.7,1.7 0.7,1.7
Mechanical 13:
  lines w0.1: -0.762,-1.5 0.762,-1.5 0.762,1.5 -0.762,1.5 -0.762,-1.5